# Altium schematic symbol library SCH - POWER - LINEAR VREG - TI LP38692SD-1.8.SchLib: 1 symbol
Pins are listed as number, name and electrical type; pins without a type are passive.

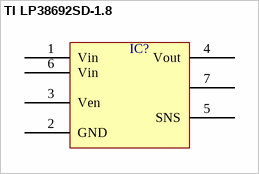
[diagram p0: symbol TI LP38692SD-1.8]

## TI LP38692SD-1.8
designator IC?  (value not drawn)
pins: 1 Vin, 2 GND, 3 Ven, 4 Vout, 5 SNS, 6 Vin, 7